# Altium footprint library LGA-14L_2.5x3x0.83mm.PcbLib: 1 footprints
Each footprint in its own frame and in the unit in brackets; x right, y up, seen from the top. Pads: shape width x height; smd on the part's side, far side on the other; paste and mask are expansions set on the pad; w line width, h text height; cw(c..) or ccw(c..) is an arc to the next point about the centre after c.
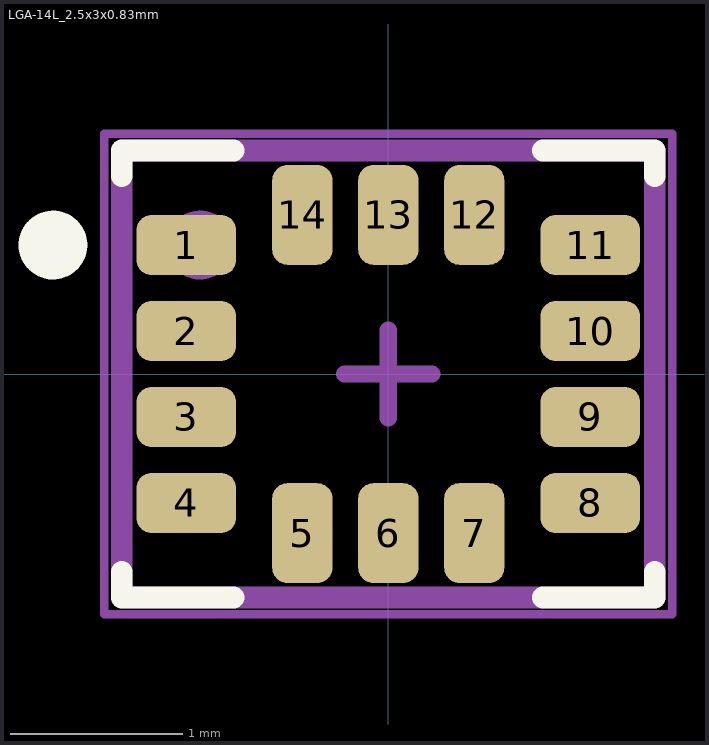
[diagram p0: the footprint, top view; thin cyan lines are the x and y axes]

## LGA-14L_2.5x3x0.83mm [mm]
pads (14):
  rrect50% 0.58x0.35 smd paste-0.02 mask+0.05: 1(-1.175,0.75) 2(-1.175,0.25) 3(-1.175,-0.25) 4(-1.175,-0.75) 8(1.175,-0.75) 9(1.175,-0.25) 10(1.175,0.25) 11(1.175,0.75)
  rrect50% 0.35x0.58 smd paste-0.02 mask+0.05: 5(-0.5,-0.925) 6(0,-0.925) 7(0.5,-0.925) 12(0.5,0.925) 13(0,0.925) 14(-0.5,0.925)
Top Overlay:
  circle w0.2: c-1.95,0.75 r0.1
  lines w0.127: -1.55,-1.15 -1.55,-1.3 -0.9,-1.3 ; -1.55,1.15 -1.55,1.3 -0.9,1.3 ; 0.9,-1.3 1.55,-1.3 1.55,-1.15 ; 0.9,1.3 1.55,1.3 1.55,1.15
Top Assembly:
  circle w0.2: c-1.095,0.75 r0.1
  circle w0.2: c-1.095,0.75 r0.1
  lines w0.127: -1.55,-1.3 1.55,-1.3 ; -1.55,-1.3 1.55,-1.3 ; -1.55,-1.3 -1.55,1.3 ; -1.55,-1.3 -1.55,1.3 ; -1.55,1.3 1.55,1.3 ; -1.55,1.3 1.55,1.3 ; 1.55,-1.3 1.55,1.3 ; 1.55,-1.3 1.55,1.3
Top Courtyard:
  lines w0.05: -1.651,-1.397 1.651,-1.397 1.651,1.397 -1.651,1.397 -1.651,-1.397
  lines w0.1: -0.254,0 0.254,0 ; 0,-0.254 0,0.254
3D body "ICM-42688-P--3DModel-STEP-1.STEP": height 0.97, standoff 0, extent -1.5,-1.25 1.5,1.25